# Altium schematic symbol library Bipolar.SchLib: 3 symbols
Pins are listed as number, name and electrical type; pins without a type are passive.

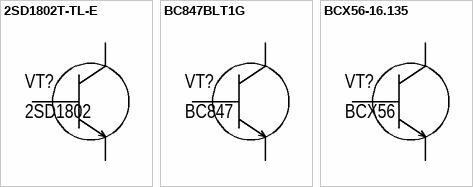
[diagram p0: symbols 2SD1802T-TL-E to BCX56-16.135]

## 2SD1802T-TL-E
designator VT?, comment 2SD1802
Bipolar (BJT) Transistor NPN 50 V 3 A 150MHz 1 W Surface Mount TP-FA; Manufacture: onsemi; Model: 2SD1802T-TL-E; Name: Транзистор биполярный; Case: TO-252 (DPAK); HelpURL: https://www.digikey.com/en/products/detail/onsemi/2SD1802T-TL-E/2748034; Value: 2SD1802
footprint TO-252
pins: 1 B, 2 C, 3 E

## BC847BLT1G
designator VT?, comment BC847
TRANS NPN 45V 100MA SOT23-3; Manufacture: ON Semiconductor; Model: BC847BLT1G; Name: Транзистор биполярный; Case: SOT-23-3 (TO-236); HelpURL: https://www.digikey.com/en/products/detail/on-semiconductor/BC847BLT1G/918344; Value: BC847
footprint SOT-23-3 (TO-236)
pins: 1 B, 2 E, 3 C

## BCX56-16.135
designator VT?, comment BCX56
Bipolar (BJT) Transistor NPN 80 V 1 A 180MHz 500 mW Surface Mount SOT-89; Manufacture: NXP USA Inc.; Model: BCX56-16115; Name: Транзистор биполярный; Case: SOT-89; HelpURL: https://www.digikey.com/en/products/detail/nxp-usa-inc/bcx56-16115/13429942; Value: BCX56
footprint SOT-89 Wave
footprint SOT-89 Reflow
pins: 1 E, 2 C, 3 B